# Altium footprint library MLACHK_K.PCBLIB: 40 footprints (part 1 of 3)
Each footprint in its own frame and in the unit in brackets; x right, y up, seen from the top. Pads: shape width x height; smd on the part's side, far side on the other; paste and mask are expansions set on the pad; w line width, h text height; cw(c..) or ccw(c..) is an arc to the next point about the centre after c.
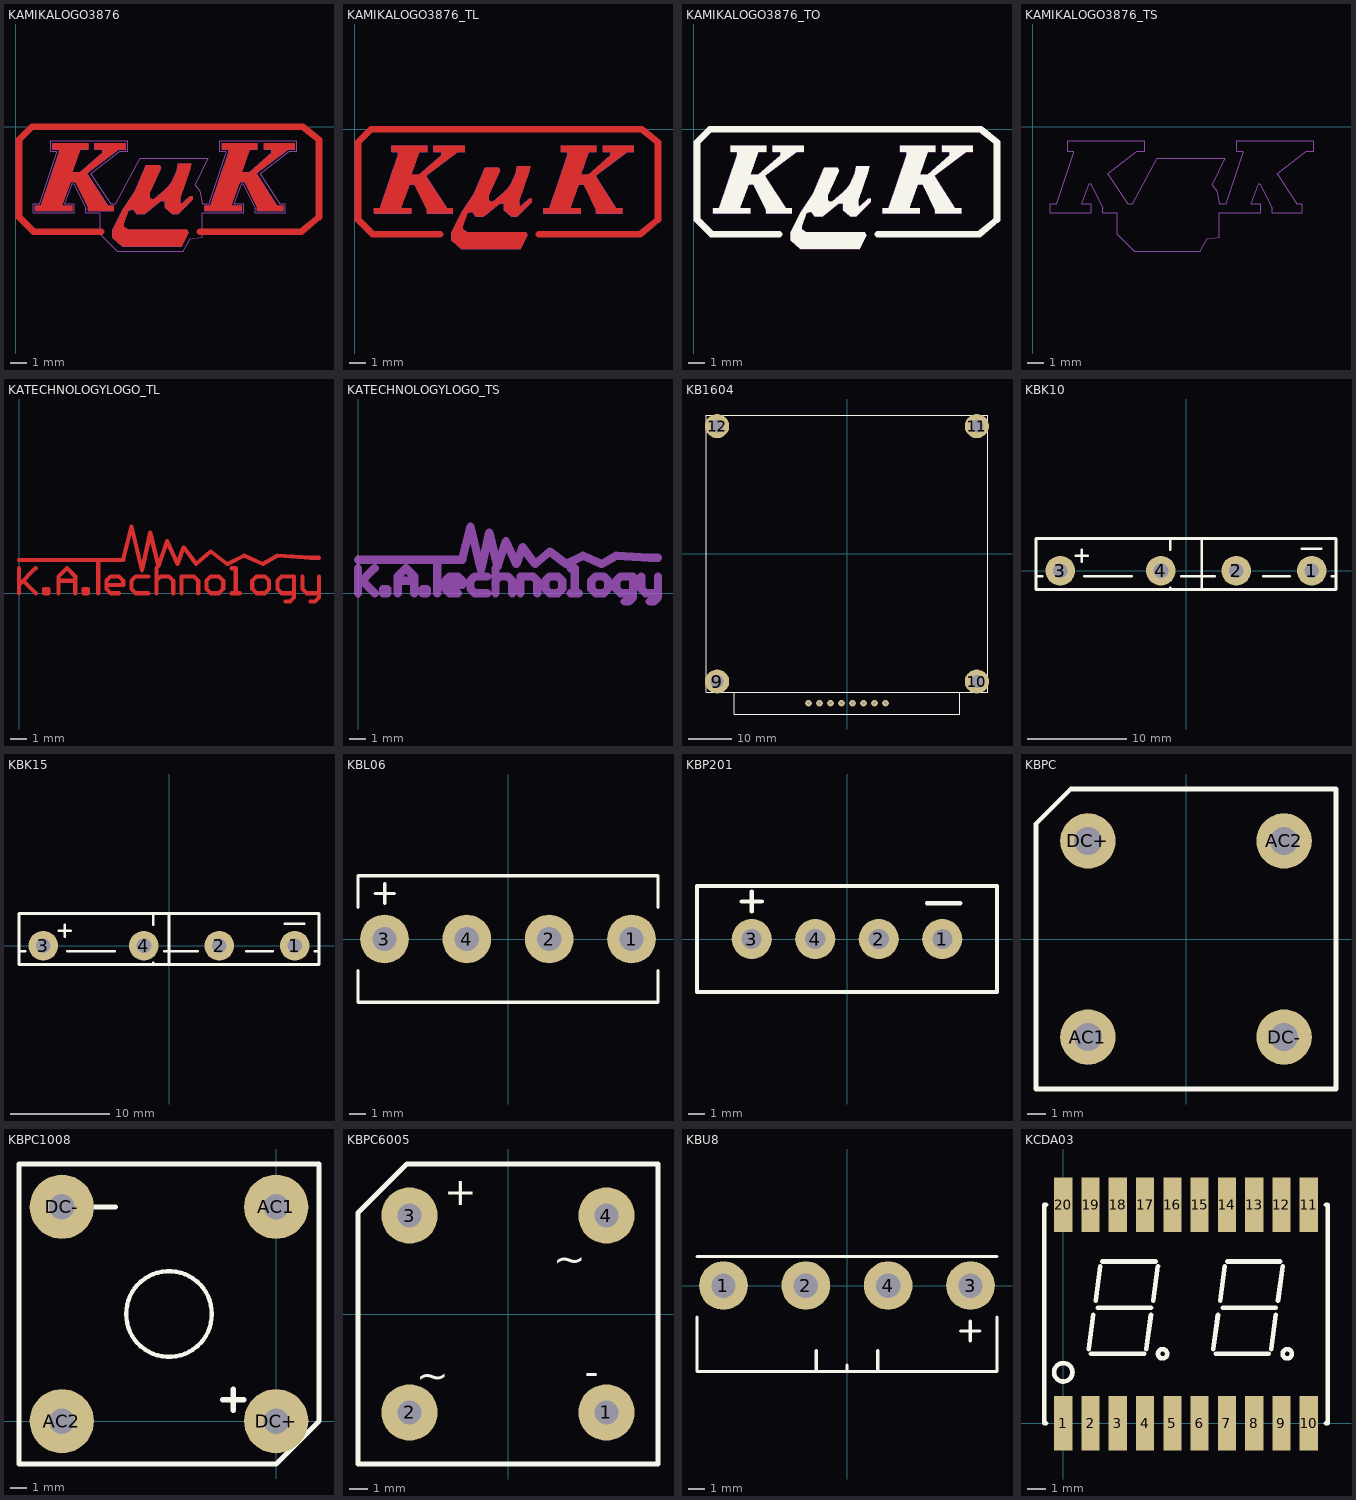
[diagram p0: the footprints below, top view; thin cyan lines are the x and y axes]

## KAMIKALOGO3876 [mm]
TopLayer:
  region: 2.261,-0.991 4.42,-0.991 4.42,-1.372 3.937,-1.372 3.454,-2.769 3.937,-2.769 5.309,-1.575 5.309,-1.372 4.826,-1.372 4.826,-0.991 6.706,-0.991 6.706,-1.372 6.299,-1.372 4.343,-2.845 4.521,-3.15 5.613,-4.826 5.994,-4.826 5.994,-5.131 4.42,-5.131 4.42,-4.928 3.632,-3.353 3.353,-3.353 2.845,-4.724 2.845,-4.826 3.454,-4.826 3.454,-5.131 1.194,-5.131 1.194,-4.826 1.575,-4.826 2.667,-1.575 2.667,-1.372 2.261,-1.372
  region: 12.598,-0.991 12.598,-1.372 13.005,-1.372 13.005,-1.575 11.913,-4.826 11.532,-4.826 11.532,-5.131 13.792,-5.131 13.792,-4.826 13.183,-4.826 13.183,-4.724 13.691,-3.353 13.97,-3.353 14.757,-4.928 14.757,-5.131 16.332,-5.131 16.332,-4.826 15.951,-4.826 14.859,-3.15 14.681,-2.845 16.637,-1.372 17.043,-1.372 17.043,-0.991 15.164,-0.991 15.164,-1.372 15.646,-1.372 15.646,-1.575 14.275,-2.769 13.792,-2.769 14.275,-1.372 14.757,-1.372 14.757,-0.991
  region: 7.976,-2.362 8.763,-2.362 8.865,-2.464 8.865,-2.565 8.179,-4.039 8.179,-4.343 8.28,-4.42 8.458,-4.42 9.144,-3.835 9.347,-3.632 9.55,-3.353 9.855,-2.667 9.931,-2.261 10.719,-2.261 10.643,-2.565 10.033,-4.343 10.033,-4.623 10.135,-4.724 10.643,-4.242 10.82,-4.242 10.82,-4.42 9.931,-5.309 9.55,-5.309 9.144,-4.928 9.144,-4.521 8.865,-4.521 7.874,-5.309 7.391,-5.309 7.188,-5.029 7.087,-5.029 6.883,-5.131 6.604,-5.918 6.604,-6.096 6.883,-6.299 10.439,-6.299 10.541,-6.502 10.135,-7.29 6.502,-7.29 5.918,-6.782 5.918,-6.299 6.502,-5.131 7.29,-3.937
  lines w0.406: 5.207,-6.401 1.092,-6.401 0.203,-5.512 0.203,-0.787 0.991,0 17.526,0 18.517,-0.787 18.517,-5.512 17.424,-6.401 11.227,-6.401
TopSolder:
  region: 1.041,-0.051 7.417,0 17.526,0 18.517,-0.787 18.517,-5.512 17.424,-6.401 11.405,-6.731 10.668,-6.833 10.236,-7.595 6.198,-7.595 5.156,-6.553 5.207,-6.401 1.092,-6.401 0.203,-5.512 0.203,-0.787
  lines w0.66: 5.207,-6.401 1.092,-6.401 0.203,-5.512 0.203,-0.787 0.991,0 17.526,0 18.517,-0.787 18.517,-5.512 17.424,-6.401 11.227,-6.401
3D_Body:
  drawing of 170 lines, arcs and shapes, not listed
3D body: height 0.3, standoff 0, extent 11.532,-5.131 17.043,-0.991
3D body: height 0.3, standoff 0, extent 5.918,-7.29 10.82,-2.261
3D body: height 0.3, standoff 0, extent 1.194,-5.131 6.706,-0.991

## KAMIKALOGO3876_TL [mm]
TopLayer:
  region: 2.261,-0.991 4.42,-0.991 4.42,-1.372 3.937,-1.372 3.454,-2.769 3.937,-2.769 5.309,-1.575 5.309,-1.372 4.826,-1.372 4.826,-0.991 6.706,-0.991 6.706,-1.372 6.299,-1.372 4.343,-2.845 4.521,-3.15 5.613,-4.826 5.994,-4.826 5.994,-5.131 4.42,-5.131 4.42,-4.928 3.632,-3.353 3.353,-3.353 2.845,-4.724 2.845,-4.826 3.454,-4.826 3.454,-5.131 1.194,-5.131 1.194,-4.826 1.575,-4.826 2.667,-1.575 2.667,-1.372 2.261,-1.372
  region: 12.598,-0.991 12.598,-1.372 13.005,-1.372 13.005,-1.575 11.913,-4.826 11.532,-4.826 11.532,-5.131 13.792,-5.131 13.792,-4.826 13.183,-4.826 13.183,-4.724 13.691,-3.353 13.97,-3.353 14.757,-4.928 14.757,-5.131 16.332,-5.131 16.332,-4.826 15.951,-4.826 14.859,-3.15 14.681,-2.845 16.637,-1.372 17.043,-1.372 17.043,-0.991 15.164,-0.991 15.164,-1.372 15.646,-1.372 15.646,-1.575 14.275,-2.769 13.792,-2.769 14.275,-1.372 14.757,-1.372 14.757,-0.991
  region: 7.976,-2.362 8.763,-2.362 8.865,-2.464 8.865,-2.565 8.179,-4.039 8.179,-4.343 8.28,-4.42 8.458,-4.42 9.144,-3.835 9.347,-3.632 9.55,-3.353 9.855,-2.667 9.931,-2.261 10.719,-2.261 10.643,-2.565 10.033,-4.343 10.033,-4.623 10.135,-4.724 10.643,-4.242 10.82,-4.242 10.82,-4.42 9.931,-5.309 9.55,-5.309 9.144,-4.928 9.144,-4.521 8.865,-4.521 7.874,-5.309 7.391,-5.309 7.188,-5.029 7.087,-5.029 6.883,-5.131 6.604,-5.918 6.604,-6.096 6.883,-6.299 10.439,-6.299 10.541,-6.502 10.135,-7.29 6.502,-7.29 5.918,-6.782 5.918,-6.299 6.502,-5.131 7.29,-3.937
  lines w0.406: 5.207,-6.401 1.092,-6.401 0.203,-5.512 0.203,-0.787 0.991,0 17.526,0 18.517,-0.787 18.517,-5.512 17.424,-6.401 11.227,-6.401
3D_Body:
  lines w0.025: 1.194,-5.131 1.194,-4.826 1.575,-4.826 2.667,-1.575 2.667,-1.372 2.261,-1.372 2.261,-0.991 4.42,-0.991 4.42,-1.372 3.937,-1.372 3.454,-2.769 3.937,-2.769 5.309,-1.575 5.309,-1.372 4.826,-1.372 4.826,-0.991 6.706,-0.991 6.706,-1.372 6.299,-1.372 4.343,-2.845 4.521,-3.15 5.613,-4.826 5.994,-4.826 5.994,-5.131 4.42,-5.131 4.42,-4.928 3.632,-3.353 3.353,-3.353 2.845,-4.724 2.845,-4.826 3.454,-4.826 3.454,-5.131 1.194,-5.131 ; 5.918,-6.782 6.502,-7.29 10.135,-7.29 10.541,-6.502 10.439,-6.299 6.883,-6.299 6.604,-6.096 6.604,-5.918 6.883,-5.131 7.087,-5.029 7.188,-5.029 7.391,-5.309 7.874,-5.309 8.865,-4.521 9.144,-4.521 9.144,-4.928 9.55,-5.309 9.931,-5.309 10.82,-4.42 10.82,-4.242 10.643,-4.242 10.338,-4.521 10.135,-4.724 10.033,-4.623 10.033,-4.343 10.643,-2.565 10.719,-2.261 9.931,-2.261 9.855,-2.667 9.652,-3.15 9.55,-3.353 9.347,-3.632 9.144,-3.835 8.458,-4.42 8.28,-4.42 8.179,-4.343 8.179,-4.039 8.865,-2.565 8.865,-2.464 8.763,-2.362 7.976,-2.362 7.29,-3.937 6.502,-5.131 5.918,-6.299 5.918,-6.782 ; 11.532,-5.131 13.792,-5.131 13.792,-4.826 13.183,-4.826 13.183,-4.724 13.691,-3.353 13.97,-3.353 14.757,-4.928 14.757,-5.131 16.332,-5.131 16.332,-4.826 15.951,-4.826 14.859,-3.15 14.681,-2.845 16.637,-1.372 17.043,-1.372 17.043,-0.991 15.164,-0.991 15.164,-1.372 15.646,-1.372 15.646,-1.575 14.275,-2.769 13.792,-2.769 14.275,-1.372 14.757,-1.372 14.757,-0.991 12.598,-0.991 12.598,-1.372 13.005,-1.372 13.005,-1.575 11.913,-4.826 11.532,-4.826 11.532,-5.131
3D body: height 0.3, standoff 0, extent 11.532,-5.131 17.043,-0.991
3D body: height 0.3, standoff 0, extent 5.918,-7.29 10.82,-2.261
3D body: height 0.3, standoff 0, extent 1.194,-5.131 6.706,-0.991

## KAMIKALOGO3876_TO [mm]
TopOverlay:
  region: 7.976,-2.362 8.763,-2.362 8.865,-2.464 8.865,-2.565 8.179,-4.039 8.179,-4.343 8.28,-4.42 8.458,-4.42 9.144,-3.835 9.347,-3.632 9.55,-3.353 9.855,-2.667 9.931,-2.261 10.719,-2.261 10.643,-2.565 10.033,-4.343 10.033,-4.623 10.135,-4.724 10.643,-4.242 10.82,-4.242 10.82,-4.42 9.931,-5.309 9.55,-5.309 9.144,-4.928 9.144,-4.521 8.865,-4.521 7.874,-5.309 7.391,-5.309 7.188,-5.029 7.087,-5.029 6.883,-5.131 6.604,-5.918 6.604,-6.096 6.883,-6.299 10.439,-6.299 10.541,-6.502 10.135,-7.29 6.502,-7.29 5.918,-6.782 5.918,-6.299 6.502,-5.131 7.29,-3.937
  region: 12.598,-0.991 12.598,-1.372 13.005,-1.372 13.005,-1.575 11.913,-4.826 11.532,-4.826 11.532,-5.131 13.792,-5.131 13.792,-4.826 13.183,-4.826 13.183,-4.724 13.691,-3.353 13.97,-3.353 14.757,-4.928 14.757,-5.131 16.332,-5.131 16.332,-4.826 15.951,-4.826 14.859,-3.15 14.681,-2.845 16.637,-1.372 17.043,-1.372 17.043,-0.991 15.164,-0.991 15.164,-1.372 15.646,-1.372 15.646,-1.575 14.275,-2.769 13.792,-2.769 14.275,-1.372 14.757,-1.372 14.757,-0.991
  region: 2.261,-0.991 4.42,-0.991 4.42,-1.372 3.937,-1.372 3.454,-2.769 3.937,-2.769 5.309,-1.575 5.309,-1.372 4.826,-1.372 4.826,-0.991 6.706,-0.991 6.706,-1.372 6.299,-1.372 4.343,-2.845 4.521,-3.15 5.613,-4.826 5.994,-4.826 5.994,-5.131 4.42,-5.131 4.42,-4.928 3.632,-3.353 3.353,-3.353 2.845,-4.724 2.845,-4.826 3.454,-4.826 3.454,-5.131 1.194,-5.131 1.194,-4.826 1.575,-4.826 2.667,-1.575 2.667,-1.372 2.261,-1.372
  lines w0.406: 5.207,-6.401 1.092,-6.401 0.203,-5.512 0.203,-0.787 0.991,0 17.526,0 18.517,-0.787 18.517,-5.512 17.424,-6.401 11.227,-6.401
3D_Body:
  lines w0.025: 1.194,-5.131 3.454,-5.131 3.454,-4.826 2.845,-4.826 2.845,-4.724 3.353,-3.353 3.632,-3.353 4.42,-4.928 4.42,-5.131 5.994,-5.131 5.994,-4.826 5.613,-4.826 4.521,-3.15 4.343,-2.845 6.299,-1.372 6.706,-1.372 6.706,-0.991 4.826,-0.991 4.826,-1.372 5.309,-1.372 5.309,-1.575 3.937,-2.769 3.454,-2.769 3.937,-1.372 4.42,-1.372 4.42,-0.991 2.261,-0.991 2.261,-1.372 2.667,-1.372 2.667,-1.575 1.575,-4.826 1.194,-4.826 1.194,-5.131 ; 5.918,-6.782 5.918,-6.299 6.502,-5.131 7.29,-3.937 7.976,-2.362 8.763,-2.362 8.865,-2.464 8.865,-2.565 8.179,-4.039 8.179,-4.343 8.28,-4.42 8.458,-4.42 9.144,-3.835 9.347,-3.632 9.55,-3.353 9.652,-3.15 9.855,-2.667 9.931,-2.261 10.719,-2.261 10.643,-2.565 10.033,-4.343 10.033,-4.623 10.135,-4.724 10.338,-4.521 10.643,-4.242 10.82,-4.242 10.82,-4.42 9.931,-5.309 9.55,-5.309 9.144,-4.928 9.144,-4.521 8.865,-4.521 7.874,-5.309 7.391,-5.309 7.188,-5.029 7.087,-5.029 6.883,-5.131 6.604,-5.918 6.604,-6.096 6.883,-6.299 10.439,-6.299 10.541,-6.502 10.135,-7.29 6.502,-7.29 5.918,-6.782 ; 11.532,-5.131 11.532,-4.826 11.913,-4.826 13.005,-1.575 13.005,-1.372 12.598,-1.372 12.598,-0.991 14.757,-0.991 14.757,-1.372 14.275,-1.372 13.792,-2.769 14.275,-2.769 15.646,-1.575 15.646,-1.372 15.164,-1.372 15.164,-0.991 17.043,-0.991 17.043,-1.372 16.637,-1.372 14.681,-2.845 14.859,-3.15 15.951,-4.826 16.332,-4.826 16.332,-5.131 14.757,-5.131 14.757,-4.928 13.97,-3.353 13.691,-3.353 13.183,-4.724 13.183,-4.826 13.792,-4.826 13.792,-5.131 11.532,-5.131

## KAMIKALOGO3876_TS [mm]
TopSolder:
  region: 2.134,-0.864 6.833,-0.864 6.833,-1.499 6.35,-1.499 4.597,-2.87 5.791,-4.699 6.121,-4.699 7.62,-1.93 11.76,-1.93 10.973,-3.556 11.227,-3.912 11.405,-4.699 11.811,-4.699 12.852,-1.575 12.852,-1.499 12.471,-1.499 12.471,-0.864 17.17,-0.864 17.17,-1.499 16.688,-1.499 14.935,-2.87 16.129,-4.699 16.459,-4.699 16.459,-5.258 14.63,-5.258 14.63,-4.978 13.868,-3.48 13.792,-3.48 13.335,-4.699 13.919,-4.699 13.919,-5.258 11.405,-5.258 11.405,-6.731 10.668,-6.833 10.236,-7.595 6.198,-7.595 5.156,-6.553 5.156,-5.258 4.293,-5.258 4.293,-4.978 3.531,-3.48 3.454,-3.48 2.997,-4.699 3.581,-4.699 3.581,-5.258 1.067,-5.258 1.067,-4.699 1.473,-4.699 2.515,-1.575 2.515,-1.499 2.134,-1.499
  lines w0.66: 5.207,-6.401 1.092,-6.401 0.203,-5.512 0.203,-0.787 0.991,0 17.526,0 18.517,-0.787 18.517,-5.512 17.424,-6.401 11.227,-6.401
3D_Body:
  lines w0.025: 1.067,-5.258 3.581,-5.258 3.581,-4.699 2.997,-4.699 3.454,-3.48 3.531,-3.48 4.293,-4.978 4.293,-5.029 4.293,-5.131 4.293,-5.258 5.156,-5.258 5.156,-6.509 5.156,-6.553 6.198,-7.595 10.236,-7.595 10.668,-6.833 11.405,-6.731 11.405,-5.258 13.919,-5.258 13.919,-4.699 13.335,-4.699 13.792,-3.48 13.868,-3.48 14.631,-4.978 14.63,-5.029 14.63,-5.131 14.63,-5.258 16.459,-5.258 16.459,-4.699 16.205,-4.699 16.129,-4.699 14.935,-2.87 16.688,-1.499 16.84,-1.499 17.17,-1.499 17.17,-0.864 15.037,-0.864 12.471,-0.864 12.471,-1.499 12.852,-1.499 12.852,-1.575 11.811,-4.699 11.405,-4.699 11.227,-3.912 10.973,-3.556 11.76,-1.93 7.62,-1.93 6.121,-4.699 5.867,-4.699 5.791,-4.699 4.597,-2.87 6.35,-1.499 6.502,-1.499 6.833,-1.499 6.833,-0.864 4.699,-0.864 2.134,-0.864 2.134,-1.499 2.515,-1.499 2.515,-1.575 1.473,-4.699 1.067,-4.699 1.067,-5.258

## KATECHNOLOGYLOGO_TL [mm]
TopLayer:
  lines w0.254: 0,0 0,1.524 ; 0,0.508 1.016,1.524 ; 0,2.032 4.826,2.032 ; 0.254,0.762 1.016,0 ; 2.413,0 2.413,1.016 2.921,1.524 3.429,1.016 3.429,0 ; 2.413,0.762 3.429,0.762 ; 4.826,0 4.826,2.032 ; 5.334,0.508 6.35,0.508 6.35,0.762 6.096,1.016 5.588,1.016 5.334,0.762 5.334,0.254 5.588,0 6.096,0 ; 7.874,0 7.112,0 6.858,0.254 6.858,0.762 7.112,1.016 7.874,1.016 ; 8.382,0 8.382,1.524 ; 8.382,0.762 8.636,1.016 9.144,1.016 9.398,0.762 9.398,0 ; 9.906,0 9.906,1.016 10.668,1.016 10.922,0.762 10.922,0 ; 12.954,0 13.462,0 ; 12.954,1.524 13.208,1.524 13.208,0 ; 16.256,-0.508 16.51,-0.508 16.764,-0.254 16.764,1.016 16.002,1.016 15.748,0.762 15.748,0.254 16.002,0 16.764,0 ; 17.272,1.016 17.272,0.254 17.526,0 18.288,0 ; 17.78,-0.508 18.034,-0.508 18.288,-0.254 18.288,1.016 ; 18.288,2.159 17.78,2.159 15.748,2.286 14.859,1.778 13.716,2.286 12.7,1.778 11.684,2.54 10.795,1.778 10.033,2.794 9.652,1.778 9.017,3.175 8.509,1.651 8.001,3.683 7.493,1.397 6.858,4.064 6.35,2.032 4.826,2.032 ; 1.524,0 1.778,0 1.778,0.254 1.524,0.254 1.524,0.127 1.524,0 ; 3.937,0 4.191,0 4.191,0.254 3.937,0.254 3.937,0 ; 11.43,0.254 11.43,0.762 11.684,1.016 12.192,1.016 12.446,0.762 12.446,0.254 12.192,0 11.684,0 11.43,0.254 ; 14.224,0.254 14.224,0.762 14.478,1.016 14.986,1.016 15.24,0.762 15.24,0.254 14.986,0 14.478,0 14.224,0.254
3D body: height 0.3, standoff 0, extent -0.127,-0.127 1.143,1.651
3D body: height 0.3, standoff 0, extent 1.397,-0.127 1.905,0.381
3D body: height 0.3, standoff 0, extent 2.286,-0.127 3.556,1.651
3D body: height 0.3, standoff 0, extent -0.127,-0.127 18.415,4.191
3D body: height 0.3, standoff 0, extent 5.207,-0.127 6.477,1.143
3D body: height 0.3, standoff 0, extent 6.731,-0.127 8.001,1.143
3D body: height 0.3, standoff 0, extent 8.255,-0.127 9.525,1.651
3D body: height 0.3, standoff 0, extent 9.779,-0.127 11.049,1.143
3D body: height 0.3, standoff 0, extent 11.303,-0.127 12.573,1.143
3D body: height 0.3, standoff 0, extent 12.827,-0.127 13.589,1.651
3D body: height 0.3, standoff 0, extent 15.621,-0.635 16.891,1.143
3D body: height 0.3, standoff 0, extent 17.145,-0.635 18.415,1.143
3D body: height 0.3, standoff 0, extent 14.097,-0.127 15.367,1.143
3D body: height 0.3, standoff 0, extent 3.81,-0.127 4.318,0.381

## KATECHNOLOGYLOGO_TS [mm]
TopSolder:
  lines w0.508: 0,0 0,1.524 ; 0,0.508 1.016,1.524 ; 0,2.032 4.826,2.032 ; 0.254,0.762 1.016,0 ; 2.413,0 2.413,1.016 2.921,1.524 3.429,1.016 3.429,0 ; 2.413,0.762 3.429,0.762 ; 4.826,0 4.826,2.032 ; 5.334,0.508 6.35,0.508 6.35,0.762 6.096,1.016 5.588,1.016 5.334,0.762 5.334,0.254 5.588,0 6.096,0 ; 7.874,0 7.112,0 6.858,0.254 6.858,0.762 7.112,1.016 7.874,1.016 ; 8.382,0 8.382,1.524 ; 8.382,0.762 8.636,1.016 9.144,1.016 9.398,0.762 9.398,0 ; 9.906,0 9.906,1.016 10.668,1.016 10.922,0.762 10.922,0 ; 12.954,0 13.462,0 ; 12.954,1.524 13.208,1.524 13.208,0 ; 16.256,-0.508 16.51,-0.508 16.764,-0.254 16.764,1.016 16.002,1.016 15.748,0.762 15.748,0.254 16.002,0 16.764,0 ; 17.272,1.016 17.272,0.254 17.526,0 18.288,0 ; 17.78,-0.508 18.034,-0.508 18.288,-0.254 18.288,1.016 ; 18.288,2.159 17.78,2.159 15.748,2.286 14.859,1.778 13.716,2.286 12.7,1.778 11.684,2.54 10.795,1.778 10.033,2.794 9.652,1.778 9.017,3.175 8.509,1.651 8.001,3.683 7.493,1.397 6.858,4.064 6.35,2.032 4.826,2.032 ; 1.524,0 1.524,0.127 1.524,0.254 1.778,0.254 1.778,0 1.524,0 ; 3.937,0 3.937,0.254 4.191,0.254 4.191,0 3.937,0 ; 11.43,0.254 11.684,0 12.192,0 12.446,0.254 12.446,0.762 12.192,1.016 11.684,1.016 11.43,0.762 11.43,0.254 ; 14.224,0.254 14.478,0 14.986,0 15.24,0.254 15.24,0.762 14.986,1.016 14.478,1.016 14.224,0.762 14.224,0.254

## KB1604 [mil]
pads (12):
  round 60 hole 28: 1(-350,-1358.27) 2(-250,-1358.27) 3(-150,-1358.27) 4(-50,-1358.27) 5(50,-1358.27) 6(150,-1358.27) 7(250,-1358.27) 8(350,-1358.27)
  round 220 hole 120: 9(-1181.1,-1161.42) 10(1181.1,-1161.42) 11(1181.1,1161.42) 12(-1181.1,1161.42)
TopOverlay:
  lines w8: -1023.62,-1259.84 -1023.62,-1456.69 1023.62,-1456.69 1023.62,-1259.84 ; -1279.53,-1259.84 1279.53,-1259.84 1279.53,1259.84 -1279.53,1259.84 -1279.53,-1259.84

## KBK10 [mm]
pads (4):
  round 3 hole 1.5: 1(12.7,0) 2(5.08,0) 3(-12.7,0) 4(-2.54,0)
TopOverlay:
  lines w0.254: -15.15,-0.55 -14.5,-0.55 ; -11.12,1.5 -9.92,1.5 ; -10.52,0.9 -10.52,2.1 ; -10.3,-0.55 -5.5,-0.55 ; -1.6,-1.9 -1.6,-1.7 ; -1.6,2.1 -1.6,3.25 ; -0.5,-0.55 2.9,-0.55 ; 1.6,-1.9 1.6,3.25 ; 7.8,-0.55 10.5,-0.55 ; 11.68,2.2 13.68,2.2 ; 14.7,-0.55 15.15,-0.55 ; -15.15,-1.9 15.15,-1.9 15.15,3.25 -15.15,3.25 -15.15,-1.9
3D body: height 5, standoff 0, extent 12.1,-0.4 13.3,0.4
3D body: height 5, standoff 0, extent 4.48,-0.4 5.68,0.4
3D body: height 5, standoff 0, extent -3.14,-0.4 -1.94,0.4
3D body: height 5, standoff 0, extent -13.3,-0.4 -12.1,0.4
3D body: height 22, standoff 4.5, extent -15.15,-1.9 15.15,3.25

## KBK15 [mm]
pads (4):
  round 3 hole 1.5: 1(12.7,0) 2(5.08,0) 3(-12.7,0) 4(-2.54,0)
TopOverlay:
  lines w0.254: -15.15,-0.55 -14.5,-0.55 ; -11.12,1.5 -9.92,1.5 ; -10.52,0.9 -10.52,2.1 ; -10.3,-0.55 -5.5,-0.55 ; -1.6,-1.9 -1.6,-1.7 ; -1.6,2.1 -1.6,3.25 ; -0.5,-0.55 2.9,-0.55 ; 0,-1.9 0,3.25 ; 7.8,-0.55 10.5,-0.55 ; 11.68,2.2 13.68,2.2 ; 14.7,-0.55 15.15,-0.55 ; -15.15,-1.9 -15.15,3.25 15.15,3.25 15.15,-1.9 -15.15,-1.9
3D body: height 5, standoff 0, extent -13.3,-0.4 -12.1,0.4
3D body: height 5, standoff 0, extent -3.14,-0.4 -1.94,0.4
3D body: height 5, standoff 0, extent 4.48,-0.4 5.68,0.4
3D body: height 5, standoff 0, extent 12.1,-0.4 13.3,0.4
3D body: height 22, standoff 3.8, extent -15.15,-0.55 15.15,3.25
3D body: height 8, standoff 3.8, extent -15.15,-1.9 15.15,3.25

## KBL06 [mm]
pads (4):
  round 3 hole 1.5: 1(7.62,0) 2(2.54,0) 3(-7.62,0) 4(-2.54,0)
TopOverlay:
  lines w0.203: -9.25,-1.95 -9.25,-3.9 9.25,-3.9 9.25,-1.95 ; -9.25,1.95 -9.25,3.9 9.25,3.9 9.25,1.95 ; -8.2,2.8 -7,2.8 ; -7.6,2.2 -7.6,3.4
3D body: height 15, standoff 0, extent -9.25,-3.9 9.25,3.9

## KBP201 [mm]
pads (4):
  round 2.4 hole 1.2: 1(5.715,0) 2(1.905,0) 3(-5.715,0) 4(-1.905,0)
TopOverlay:
  lines w0.254: -6.32,2.25 -5.12,2.25 ; -5.72,1.65 -5.72,2.85 ; 4.8,2.15 6.8,2.15 ; -9,-3.175 9,-3.175 9,3.175 -9,3.175 -9,-3.175
3D body: height 17, standoff 3, extent -9,-3.175 9,3.175
3D body: height 4, standoff -3, extent 5.263,-0.449 6.159,0.449
3D body: height 4, standoff -3, extent 1.453,-0.449 2.349,0.449
3D body: height 4, standoff -3, extent -2.357,-0.449 -1.46,0.449
3D body: height 4, standoff -3, extent -6.167,-0.449 -5.271,0.449

## KBPC [mil]
pads (4):
  round 120 hole 60: AC1(-212.5,-212.5) AC2(212.5,212.5) DC+(-212.5,212.5) DC-(212.5,-212.5)
TopOverlay:
  lines w10: -325,-325 325,-325 325,325 -250,325 -325,250 -325,-325

## KBPC1008 [mil]
pads (4):
  round 150 hole 60: AC1(0,500) AC2(-500,0) DC+(0,0) DC-(-500,500)
TopOverlay:
  circle w10: c-250,250 r100
  lines w12: -425,500 -375,500 ; -125,50 -75,50 ; -100,25 -100,75 ; -600,-100 0,-100 100,0 100,600 -600,600 -600,-100

## KBPC6005 [mm]
pads (4):
  round 3 hole 1.3: 1(5.25,-5.25) 2(-5.25,-5.25) 3(-5.25,5.25) 4(5.25,5.25)
TopOverlay:
  lines w0.254: -8,-8 -8,5.4 -5.4,8 8,8 8,-8 -8,-8
  text "~" at 2.4,2.2 h1.52
  text "~" at -4.9,-4 h1.52
  text "-" at 4.1,-3.8 h1.52
  text "+" at -3.4,5.8 h1.52
3D body: height 5, standoff 0, extent -5.9,4.6 -4.603,5.895
3D body: height 5, standoff 0, extent 4.6,4.603 5.895,5.9
3D body: height 5, standoff 0, extent 4.603,-5.895 5.9,-4.6
3D body: height 5, standoff 0, extent -5.895,-5.9 -4.6,-4.603
3D body: height 10, standoff 3, extent -8,-8 8,8

## KBU8 [mm]
pads (4):
  round 3 hole 1.5: 1(-7.62,0) 2(-2.54,0) 3(7.62,0) 4(2.54,0)
TopOverlay:
  lines w0.2: -1.9,-5.3 -1.9,-4 ; 0,-5.3 0,-4.9 ; 1.9,-5.3 1.9,-4
  lines w0.203: -9.25,-1.95 -9.25,-5.3 9.25,-5.3 9.25,-1.95 ; -9.25,1.8 9.25,1.8 ; 7,-2.8 8.2,-2.8 ; 7.6,-3.4 7.6,-2.2
3D body: height 20, standoff 0, extent -9.25,-5.3 9.25,1.8

## KCDA03 [mm]
pads (20):
  rect 1x3 smd: 1(0,0) 2(1.5,0) 3(3,0) 4(4.5,0) 5(6,0) 6(7.5,0) 7(9,0) 8(10.5,0) 9(12,0) 10(13.5,0) 11(13.5,12) 12(12,12) 13(10.5,12) 14(9,12) 15(7.5,12) 16(6,12) 17(4.5,12) 18(3,12) 19(1.5,12) 20(0,12)
TopOverlay:
  circle w0.254: c0,2.794 r0.508
  circle w0.254: c5.461,3.81 r0.254
  circle w0.254: c12.319,3.81 r0.254
  lines w0.254: -0.95,0 -1.05,0 -1.05,12 -0.95,12 ; 1.397,4.064 1.651,5.969 ; 1.524,3.81 4.445,3.81 ; 1.778,6.731 2.032,8.636 ; 1.905,6.35 4.826,6.35 ; 2.159,8.89 5.08,8.89 ; 4.572,4.064 4.826,5.969 ; 4.953,6.731 5.207,8.636 ; 8.255,4.064 8.509,5.969 ; 8.382,3.81 11.303,3.81 ; 8.636,6.731 8.89,8.636 ; 8.763,6.35 11.684,6.35 ; 9.017,8.89 11.938,8.89 ; 11.43,4.064 11.684,5.969 ; 11.811,6.731 12.065,8.636 ; 14.45,0 14.55,0 14.55,12 14.45,12